# EAGLE library part SAM3U4/2/1E (library parts2011)
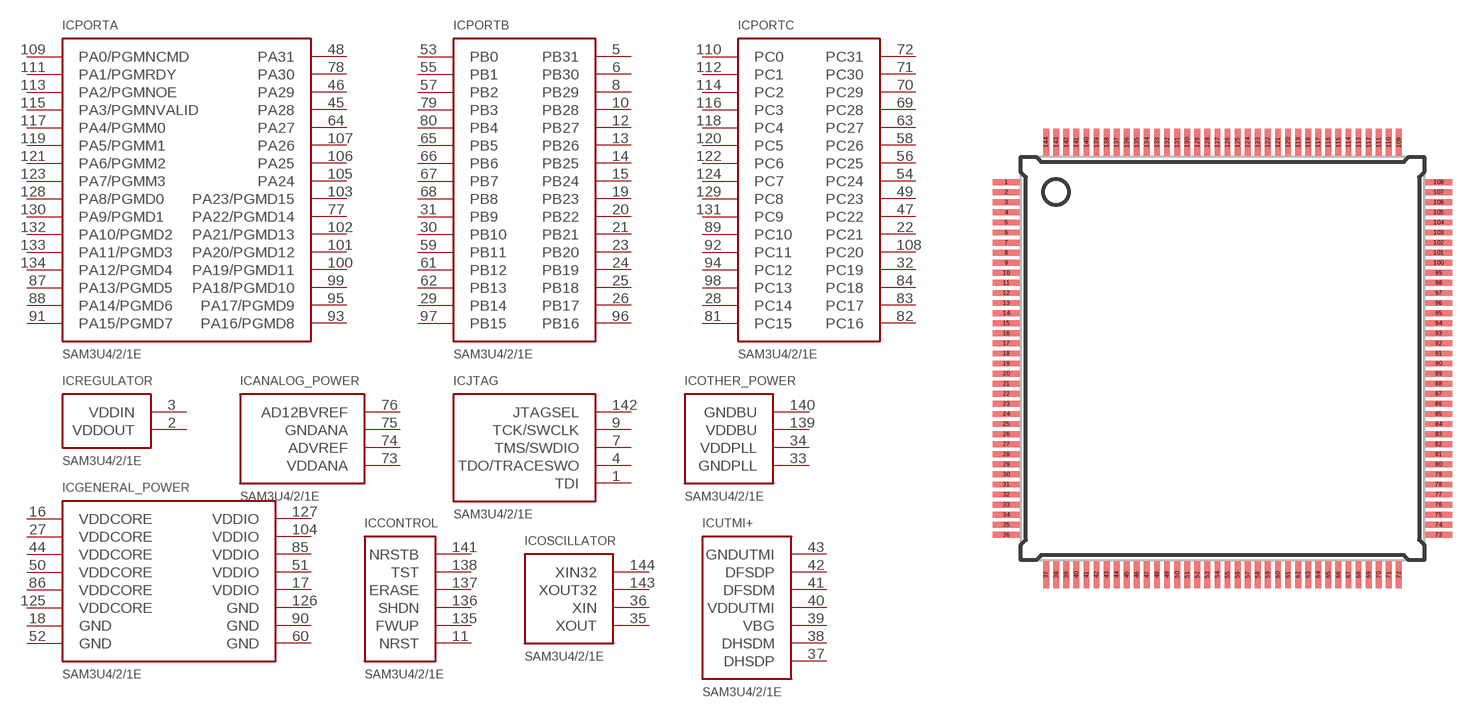
[diagram p2: symbol with the pads of LQFP-144; footprint LQFP-144]

Designator prefix IC; gates PORTA=SAM3U4/2/1E-PORTA PORTB=SAM3U4/2/1E-PORTB PORTC=SAM3U4/2/1E-PORTC UTMI+=SAM3U4/2/1E-UTMI+ ANALOG_POWER=SAM3U4/2/1E-ANAPWR CONTROL=SAM3U4/2/1E-CONTROL GENERAL_POWER=SAM3U4/2/1E-GENPWR JTAG=SAM3U4/2/1E-JTAG OSCILLATOR=SAM3U4/2/1E-OSC OTHER_POWER=SAM3U4/2/1E-OTRPWR REGULATOR=SAM3U4/2/1E-PWRREG

## SAM3U4/2/1E-LQFP-144  [LQFP-144]
1  JTAG:TDI  in
2  REGULATOR:VDDOUT  pwr
3  REGULATOR:VDDIN  pwr
4  JTAG:TDO/TRACESWO  out
5  PORTB:PB31
6  PORTB:PB30
7  JTAG:TMS/SWDIO  in
8  PORTB:PB29
9  JTAG:TCK/SWCLK  in
10  PORTB:PB28
11  CONTROL:NRST
12  PORTB:PB27
13  PORTB:PB26
14  PORTB:PB25
15  PORTB:PB24
16  GENERAL_POWER:VDDCORE  pwr
17  GENERAL_POWER:VDDIO  pwr
18  GENERAL_POWER:GND  pwr
19  PORTB:PB23
20  PORTB:PB22
21  PORTB:PB21
22  PORTC:PC21
23  PORTB:PB20
24  PORTB:PB19
25  PORTB:PB18
26  PORTB:PB17
27  GENERAL_POWER:VDDCORE  pwr
28  PORTC:PC14
29  PORTB:PB14
30  PORTB:PB10
31  PORTB:PB9
32  PORTC:PC19
33  OTHER_POWER:GNDPLL  pwr
34  OTHER_POWER:VDDPLL  pwr
35  OSCILLATOR:XOUT  out
36  OSCILLATOR:XIN  in
37  UTMI+:DHSDP
38  UTMI+:DHSDM
39  UTMI+:VBG  in
40  UTMI+:VDDUTMI  pwr
41  UTMI+:DFSDM
42  UTMI+:DFSDP
43  UTMI+:GNDUTMI  pwr
44  GENERAL_POWER:VDDCORE  pwr
45  PORTA:PA28
46  PORTA:PA29
47  PORTC:PC22
48  PORTA:PA31
49  PORTC:PC23
50  GENERAL_POWER:VDDCORE  pwr
51  GENERAL_POWER:VDDIO  pwr
52  GENERAL_POWER:GND  pwr
53  PORTB:PB0
54  PORTC:PC24
55  PORTB:PB1
56  PORTC:PC25
57  PORTB:PB2
58  PORTC:PC26
59  PORTB:PB11
60  GENERAL_POWER:GND  pwr
61  PORTB:PB12
62  PORTB:PB13
63  PORTC:PC27
64  PORTA:PA27
65  PORTB:PB5
66  PORTB:PB6
67  PORTB:PB7
68  PORTB:PB8
69  PORTC:PC28
70  PORTC:PC29
71  PORTC:PC30
72  PORTC:PC31
73  ANALOG_POWER:VDDANA  pwr
74  ANALOG_POWER:ADVREF  in
75  ANALOG_POWER:GNDANA  pwr
76  ANALOG_POWER:AD12BVREF  in
77  PORTA:PA22/PGMD14
78  PORTA:PA30
79  PORTB:PB3
80  PORTB:PB4
81  PORTC:PC15
82  PORTC:PC16
83  PORTC:PC17
84  PORTC:PC18
85  GENERAL_POWER:VDDIO  pwr
86  GENERAL_POWER:VDDCORE  pwr
87  PORTA:PA13/PGMD5
88  PORTA:PA14/PGMD6
89  PORTC:PC10
90  GENERAL_POWER:GND  pwr
91  PORTA:PA15/PGMD7
92  PORTC:PC11
93  PORTA:PA16/PGMD8
94  PORTC:PC12
95  PORTA:PA17/PGMD9
96  PORTB:PB16
97  PORTB:PB15
98  PORTC:PC13
99  PORTA:PA18/PGMD10
100  PORTA:PA19/PGMD11
101  PORTA:PA20/PGMD12
102  PORTA:PA21/PGMD13
103  PORTA:PA23/PGMD15
104  GENERAL_POWER:VDDIO  pwr
105  PORTA:PA24
106  PORTA:PA25
107  PORTA:PA26
108  PORTC:PC20
109  PORTA:PA0/PGMNCMD
110  PORTC:PC0
111  PORTA:PA1/PGMRDY
112  PORTC:PC1
113  PORTA:PA2/PGMNOE
114  PORTC:PC2
115  PORTA:PA3/PGMNVALID
116  PORTC:PC3
117  PORTA:PA4/PGMM0
118  PORTC:PC4
119  PORTA:PA5/PGMM1
120  PORTC:PC5
121  PORTA:PA6/PGMM2
122  PORTC:PC6
123  PORTA:PA7/PGMM3
124  PORTC:PC7
125  GENERAL_POWER:VDDCORE  pwr
126  GENERAL_POWER:GND  pwr
127  GENERAL_POWER:VDDIO  pwr
128  PORTA:PA8/PGMD0
129  PORTC:PC8
130  PORTA:PA9/PGMD1
131  PORTC:PC9
132  PORTA:PA10/PGMD2
133  PORTA:PA11/PGMD3
134  PORTA:PA12/PGMD4
135  CONTROL:FWUP  in
136  CONTROL:SHDN  out
137  CONTROL:ERASE  in
138  CONTROL:TST  in
139  OTHER_POWER:VDDBU  pwr
140  OTHER_POWER:GNDBU  pwr
141  CONTROL:NRSTB  in
142  JTAG:JTAGSEL  in
143  OSCILLATOR:XOUT32  out
144  OSCILLATOR:XIN32  in

## Footprint LQFP-144 (pad centres in mm)
smd 1.35 x 0.29: 1 -10.725,8.75; 2 -10.725,8.25; 3 -10.725,7.75; 4 -10.725,7.25; 5 -10.725,6.75; 6 -10.725,6.25; 7 -10.725,5.75; 8 -10.725,5.25; 9 -10.725,4.75; 10 -10.725,4.25; 11 -10.725,3.75; 12 -10.725,3.25; 13 -10.725,2.75; 14 -10.725,2.25; 15 -10.725,1.75; 16 -10.725,1.25; 17 -10.725,0.75; 18 -10.725,0.25; 19 -10.725,-0.25; 20 -10.725,-0.75; 21 -10.725,-1.25; 22 -10.725,-1.75; 23 -10.725,-2.25; 24 -10.725,-2.75; 25 -10.725,-3.25; 26 -10.725,-3.75; 27 -10.725,-4.25; 28 -10.725,-4.75; 29 -10.725,-5.25; 30 -10.725,-5.75; 31 -10.725,-6.25; 32 -10.725,-6.75; 33 -10.725,-7.25; 34 -10.725,-7.75; 35 -10.725,-8.25; 36 -10.725,-8.75; 73 10.725,-8.75; 74 10.725,-8.25; 75 10.725,-7.75; 76 10.725,-7.25; 77 10.725,-6.75; 78 10.725,-6.25; 79 10.725,-5.75; 80 10.725,-5.25; 81 10.725,-4.75; 82 10.725,-4.25; 83 10.725,-3.75; 84 10.725,-3.25; 85 10.725,-2.75; 86 10.725,-2.25; 87 10.725,-1.75; 88 10.725,-1.25; 89 10.725,-0.75; 90 10.725,-0.25; 91 10.725,0.25; 92 10.725,0.75; 93 10.725,1.25; 94 10.725,1.75; 95 10.725,2.25; 96 10.725,2.75; 97 10.725,3.25; 98 10.725,3.75; 99 10.725,4.25; 100 10.725,4.75; 101 10.725,5.25; 102 10.725,5.75; 103 10.725,6.25; 104 10.725,6.75; 105 10.725,7.25; 106 10.725,7.75; 107 10.725,8.25; 108 10.725,8.75
smd 0.29 x 1.35: 37 -8.75,-10.725; 38 -8.25,-10.725; 39 -7.75,-10.725; 40 -7.25,-10.725; 41 -6.75,-10.725; 42 -6.25,-10.725; 43 -5.75,-10.725; 44 -5.25,-10.725; 45 -4.75,-10.725; 46 -4.25,-10.725; 47 -3.75,-10.725; 48 -3.25,-10.725; 49 -2.75,-10.725; 50 -2.25,-10.725; 51 -1.75,-10.725; 52 -1.25,-10.725; 53 -0.75,-10.725; 54 -0.25,-10.725; 55 0.25,-10.725; 56 0.75,-10.725; 57 1.25,-10.725; 58 1.75,-10.725; 59 2.25,-10.725; 60 2.75,-10.725; 61 3.25,-10.725; 62 3.75,-10.725; 63 4.25,-10.725; 64 4.75,-10.725; 65 5.25,-10.725; 66 5.75,-10.725; 67 6.25,-10.725; 68 6.75,-10.725; 69 7.25,-10.725; 70 7.75,-10.725; 71 8.25,-10.725; 72 8.75,-10.725; 109 8.75,10.725; 110 8.25,10.725; 111 7.75,10.725; 112 7.25,10.725; 113 6.75,10.725; 114 6.25,10.725; 115 5.75,10.725; 116 5.25,10.725; 117 4.75,10.725; 118 4.25,10.725; 119 3.75,10.725; 120 3.25,10.725; 121 2.75,10.725; 122 2.25,10.725; 123 1.75,10.725; 124 1.25,10.725; 125 0.75,10.725; 126 0.25,10.725; 127 -0.25,10.725; 128 -0.75,10.725; 129 -1.25,10.725; 130 -1.75,10.725; 131 -2.25,10.725; 132 -2.75,10.725; 133 -3.25,10.725; 134 -3.75,10.725; 135 -4.25,10.725; 136 -4.75,10.725; 137 -5.25,10.725; 138 -5.75,10.725; 139 -6.25,10.725; 140 -6.75,10.725; 141 -7.25,10.725; 142 -7.75,10.725; 143 -8.25,10.725; 144 -8.75,10.725